# Altium footprint library ZMBo Footprint Library.PcbLib: 76 footprints (part 1 of 5)
Each footprint in its own frame and in the unit in brackets; x right, y up, seen from the top. Pads: shape width x height; smd on the part's side, far side on the other; paste and mask are expansions set on the pad; w line width, h text height; cw(c..) or ccw(c..) is an arc to the next point about the centre after c.
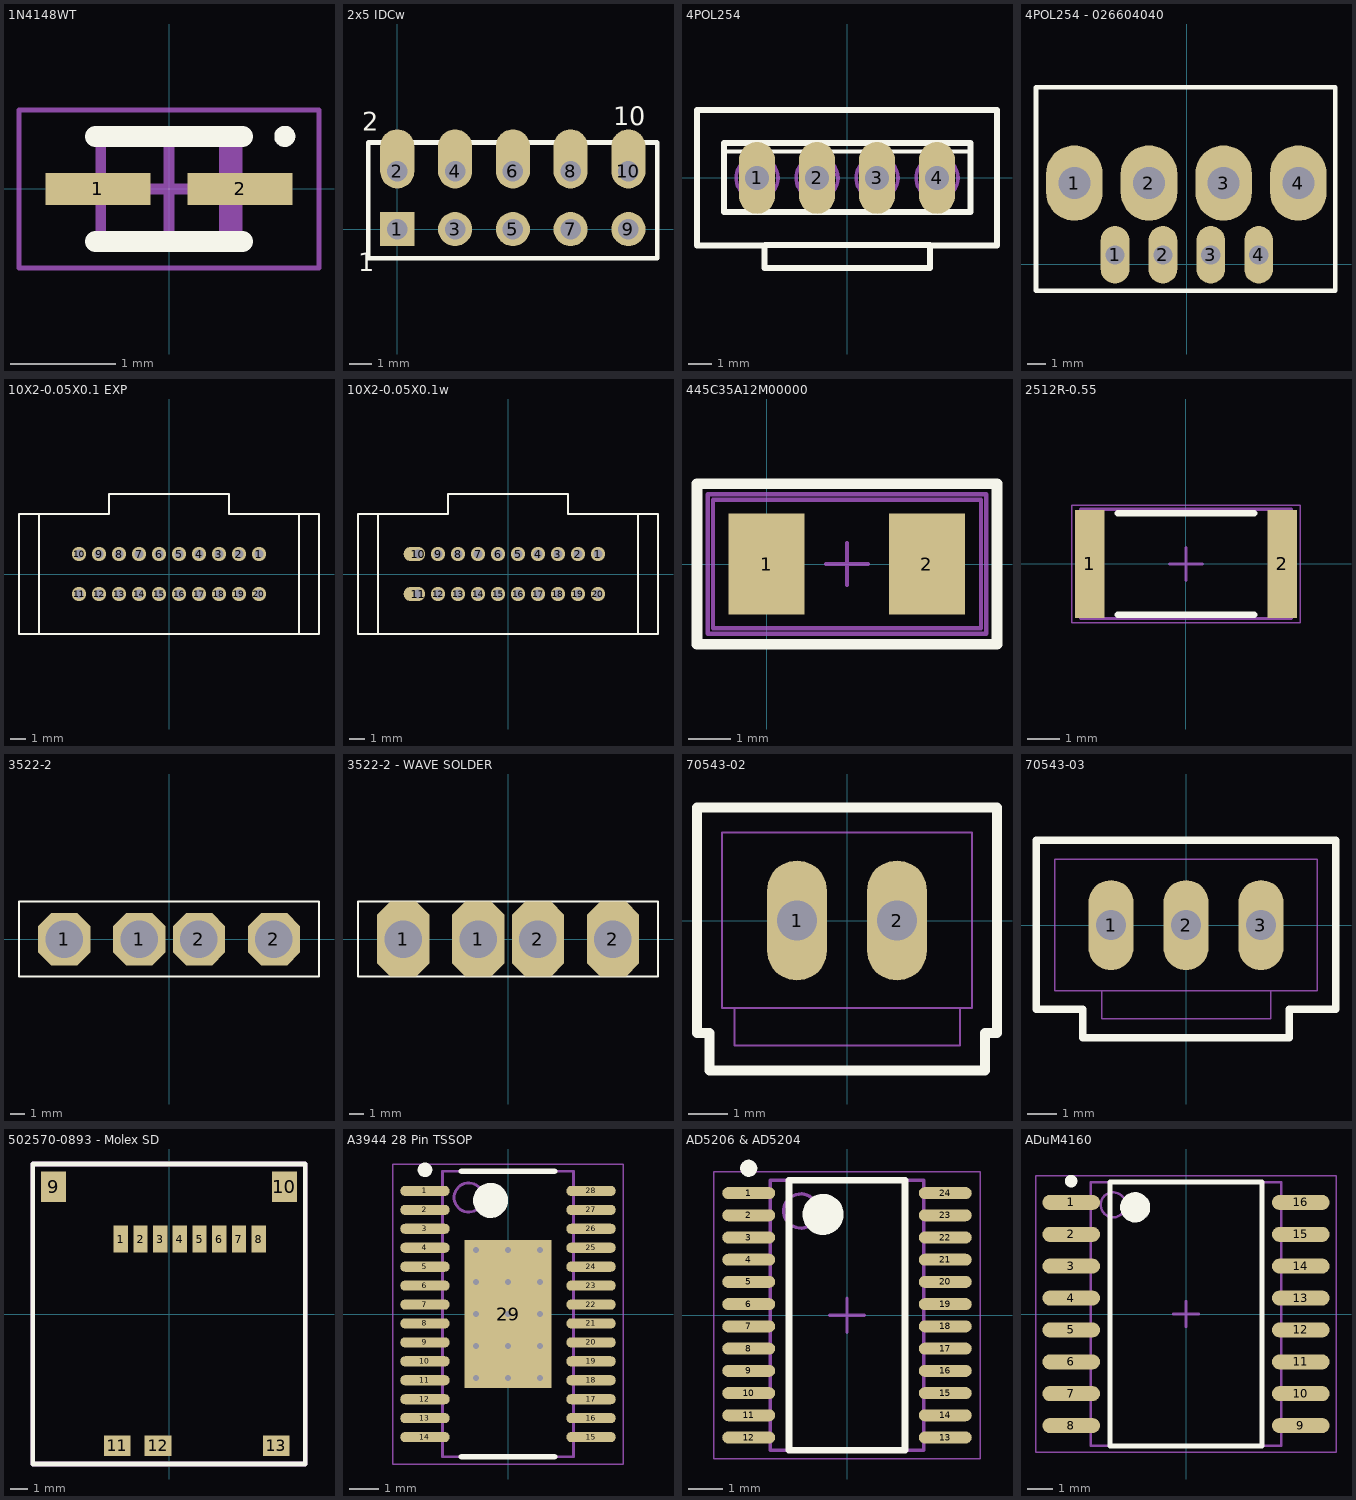
[diagram p0: the footprints below, top view; thin cyan lines are the x and y axes]

## 1N4148WT [mm] "Molded Diode, 2-Leads, Body 1.20x0.80mm, IPC Medium Density"
height 0.7
pads (2):
  rect 1x0.3 smd: 1(-0.675,0) 2(0.675,0)
Top Overlay:
  circle w0.1: c1.1,0.5 r0.05
  lines w0.2: -0.7,-0.5 0.7,-0.5 ; -0.7,0.5 0.7,0.5
Mechanical 13:
  rectangle: 0.475,-0.45 0.65,0.45
  lines w0.1: -0.65,-0.45 -0.65,0.45 0.65,0.45 0.65,-0.45 -0.65,-0.45
Mechanical 15:
  lines w0.05: -1.425,-0.75 -1.425,0.75 1.425,0.75 1.425,-0.75 -1.425,-0.75
  lines w0.1: -0.45,0 0.45,0 ; 0,-0.45 0,0.45
3D body: height 0.7, standoff 0, extent -0.65,-0.45 0.65,0.45

## 2x5 IDCw [mm]
pads (10):
  rect 1.5x1.5 hole 0.9: 1(0,0)
  oval 1.5x2.6 hole 0.9 copper offset 0,0.55: 2(0,2.54) 4(2.54,2.54) 6(5.08,2.54) 8(7.62,2.54) 10(10.16,2.54)
  round 1.5 hole 0.9: 3(2.54,0) 5(5.08,0) 7(7.62,0) 9(10.16,0)
Top Overlay:
  lines w0.2: -1.27,-1.27 -1.27,3.81 11.43,3.81 11.43,-1.27 -1.27,-1.27
  text "2" at -1.549,4.318 h0.81
  text "1" at -1.727,-1.854 h0.81
  text "10" at 9.5,4.572 h0.81
3D body: height 1.91, standoff 0, extent -1.37,-1.37 11.53,3.91
3D body: height 12.7, standoff 1.91, extent -0.826,-0.826 10.986,3.366

## 4POL254 [mil]
pads (4):
  oval 60x120 hole 40: 1(-150,0) 2(-50,0) 3(50,0) 4(150,0)
Top Overlay:
  lines w6: -200.79,44 201,44
  lines w10: -136.77,-112.22 138.73,-112.22 ; -250,-112.5 -137.5,-112.5 -137.5,-150 138,-150 138,-112.5 250,-112.5 250,113 -250,113 -250,-112.5 ; -205.12,-57.09 -205.12,58 206,58 206,-57.09 -205.12,-57.09
Mechanical 16:
  circle w6: c150,0 r35
  circle w6: c50,0 r35
  circle w6: c-50,0 r35
  circle w6: c-150,0 r35
  lines w6: -175,-20 -130,25 ; -80,-10 -20,5 ; 30,25 70,-25 ; 120,15 180,-15
3D body: height 454.33, standoff 118.11, extent -249.98,-149.98 249.98,112.98
3D body: height 118.11, standoff 0, extent -249.98,-112.48 249.98,112.98

## 4POL254 - 026604040 [mil]
pads (8):
  oval 118.11x157.48 hole 66.93: 1(-235,170) 2(-79.09,170) 3(76.81,170) 4(232.72,170)
  oval 60x120 hole 40: 1(-150,20) 2(-50,20) 3(50,20) 4(150,20)
Top Overlay:
  lines w10: -315,-55 -315,370 310,370 310,-55 -315,-55
3D body: height 583.74, standoff -136.26, extent -310,-20 308,374

## 10X2-0.05X0.1 EXP [mil]
pads (20):
  round 36 hole 22: 1(225,50) 2(175,50) 3(125,50) 4(75,50) 5(25,50) 6(-25,50) 7(-75,50) 8(-125,50) 9(-175,50) 10(-225,50) 11(-225,-50) 12(-175,-50) 13(-125,-50) 14(-75,-50) 15(-25,-50) 16(25,-50) 17(75,-50) 18(125,-50) 19(175,-50) 20(225,-50)
Top Overlay:
  lines w5: -325,-150 325,-150 ; -325,-150 -325,150 ; -325,-150 -375,-150 -375,150 -325,150 ; -325,150 -150,150 -150,200 150,200 150,150 325,150 ; 325,-150 325,150 ; 325,-150 375,-150 375,150 325,150
3D body: height 511.81, standoff 0, extent -324.98,-149.98 324.98,199.98
3D body: height 590.55, standoff 0, extent -374.98,-149.98 -325.02,149.98
3D body: height 590.55, standoff 0, extent 325.02,-149.98 374.98,149.98

## 10X2-0.05X0.1w [mil]
pads (20):
  round 36 hole 22: 1(225,50) 2(175,50) 3(125,50) 4(75,50) 5(25,50) 6(-25,50) 7(-75,50) 8(-125,50) 9(-175,50) 12(-175,-50) 13(-125,-50) 14(-75,-50) 15(-25,-50) 16(25,-50) 17(75,-50) 18(125,-50) 19(175,-50) 20(225,-50)
  oval 54x36 hole 22 copper offset -9,0: 10(-225,50) 11(-225,-50)
Top Overlay:
  lines w5: -325,-150 -375,-150 -375,150 -325,150 ; -325,-150 -325,150 ; -325,-150 325,-150 ; -325,150 -150,150 -150,200 150,200 150,150 325,150 ; 325,-150 375,-150 375,150 325,150 ; 325,-150 325,150
3D body: height 590.55, standoff 0, extent 325.02,-149.98 374.98,149.98
3D body: height 590.55, standoff 0, extent -374.98,-149.98 -325.02,149.98
3D body: height 511.81, standoff 0, extent -324.98,-149.98 324.98,199.98

## 445C35A12M00000 [mm] "Crystal Oscillator"
height 1.35
pads (2):
  rect 1.8x2.4 smd: 1(0,0) 2(3.8,0)
Top Overlay:
  lines w0.254: -1.651,-1.905 5.461,-1.905 5.461,1.905 -1.651,1.905 -1.651,-1.905
Mechanical 13:
  lines w0.1: -1.27,-1.524 -1.27,1.524 5.08,1.524 5.08,-1.524 -1.27,-1.524
Mechanical 15:
  lines w0.1: 1.405,0 2.405,0 ; 1.905,-0.5 1.905,0.5 ; -1.397,-1.651 5.207,-1.651 5.207,1.651 -1.397,1.651 -1.397,-1.651
3D body: height 1, standoff 0, extent -1.27,-1.524 5.08,1.524

## 2512R-0.55 [mm] "2512 Resistor 6.35mm x 3.2mm x 0.55mm"
height 0.65
pads (2):
  rect 0.9x3.3 smd: 1(-2.95,0) 2(2.95,0)
Top Overlay:
  lines w0.2: -2.1,-1.55 2.1,-1.55 ; -2.1,1.55 2.1,1.55
Mechanical 13:
  lines w0.1: -3.225,-1.675 -3.225,1.675 3.225,1.675 3.225,-1.675 -3.225,-1.675
Mechanical 15:
  lines w0.05: -3.5,-1.8 -3.5,1.8 3.5,1.8 3.5,-1.8 -3.5,-1.8
  lines w0.1: -0.5,0 0.5,0 ; 0,-0.5 0,0.5
3D body: height 0.65, standoff 0, extent -2.725,-1.675 2.725,1.675
3D body: height 0.65, standoff 0, extent -3.225,-1.675 -2.725,1.675
3D body: height 0.65, standoff 0, extent 2.725,-1.675 3.225,1.675

## 3522-2 [mil] "3522-2"
pads (4):
  oct 140x140 hole 100: 1(-280,0) 1(-80,0) 2(80,0) 2(280,0)
Top Overlay:
  lines w5: -400,-100 -400,100 400,100 400,-100 -400,-100
3D body: height 50, standoff 0, extent -402.5,-102.5 402.5,102.5
3D body: height 299.21, standoff 0, extent -353,-73 353,73

## 3522-2 - WAVE SOLDER [mil] "3522-2"
pads (4):
  oct 140x200 hole 100: 1(-280,0) 1(-80,0) 2(80,0) 2(280,0)
Top Overlay:
  lines w5: -400,-100 400,-100 400,100 -400,100 -400,-100
3D body: height 50, standoff 0, extent -402.5,-102.5 402.5,102.5
3D body: height 299.21, standoff 0, extent -354,-74 354,74
3D body: height 708.66, standoff 50, extent -353,-73 353,73

## 70543-02 [mil]
pads (2):
  oval 60x120 hole 40: 1(-50,0) 2(50,0)
Top Overlay:
  lines w10: -150,-112.5 -150,113 150,113 150,-112.5 138,-112.5 138,-150 -137.5,-150 -137.5,-112.5 -150,-112.5
Mechanical 16:
  rectangle: 41,-9.37 60,10
  rectangle: -59.37,-9.37 -40.63,10
  lines w2: -112.5,-87.5 -125,-87.5 -125,88 125,88 125,-87.5 113,-87.5 ; -112.5,-87.5 113,-87.5 ; -112.5,-87.5 -112.5,-125 113,-125 113,-87.5
  text "1" at -112.5,-62.5 h62
3D body: height 118.11, standoff 0, extent -149.98,-112.48 149.98,112.98
3D body: height 450, standoff 118.11, extent -149.98,-149.98 149.98,112.98

## 70543-03 [mil]
pads (3):
  oval 60x120 hole 40: 1(-100,0) 2(0,0) 3(100,0)
Top Overlay:
  lines w10: -200,-112.5 -200,113 200,113 200,-112.5 138,-112.5 138,-150 -137.5,-150 -137.5,-112.5 -200,-112.5
Mechanical 16:
  rectangle: -9.37,-9.37 10,10
  rectangle: -109.37,-9.37 -90.63,10
  rectangle: 91,-9.37 110,10
  lines w2: -112.5,-87.5 -175,-87.5 -175,88 175,88 175,-87.5 113,-87.5 ; -112.5,-87.5 113,-87.5 ; -112.5,-87.5 -112.5,-125 113,-125 113,-87.5
  text "1" at -162.5,-62.5 h62
3D body: height 450, standoff 0, extent -199.98,-149.98 199.98,112.98

## 502570-0893 - Molex SD [mm] "Molex SD Card Footprint 502570-0893"
pads (13):
  rect 0.8x1.5 smd: 1(-2.692,4.191) 2(-1.592,4.191) 3(-0.492,4.191) 4(0.608,4.191) 5(1.708,4.191) 6(2.808,4.191) 7(3.908,4.191) 8(5.008,4.191)
  rect 1.4x1.7 smd: 9(-6.452,7.112) 10(6.452,7.112)
  rect 1.5x1.15 smd: 11(-2.896,-7.366) 12(-0.61,-7.366) 13(5.994,-7.366)
Top Overlay:
  lines w0.254: -7.62,-8.382 -7.62,8.382 7.62,8.382 7.62,-8.382 -7.62,-8.382
Mechanical 13:
  lines w0.254: -7.62,-8.382 7.62,-8.382 7.62,8.382 -7.62,8.382 -7.62,-8.382
3D body: height 1.85, standoff 0.05, extent -6.858,-7.753 6.942,7.747

## A3944 28 Pin TSSOP [mm] "TSOP, 28-Leads, Body 9.70x4.40mm, Pitch 0.65mm, Thermal Pad 5.08.2x3.00.2mm, IPC Medium Density"
height 1.2
pads (29):
  oval 1.7x0.35 smd: 1(-2.85,4.225) 2(-2.85,3.575) 3(-2.85,2.925) 4(-2.85,2.275) 5(-2.85,1.625) 6(-2.85,0.975) 7(-2.85,0.325) 8(-2.85,-0.325) 9(-2.85,-0.975) 10(-2.85,-1.625) 11(-2.85,-2.275) 12(-2.85,-2.925) 13(-2.85,-3.575) 14(-2.85,-4.225) 15(2.85,-4.225) 16(2.85,-3.575) 17(2.85,-2.925) 18(2.85,-2.275) 19(2.85,-1.625) 20(2.85,-0.975) 21(2.85,-0.325) 22(2.85,0.325) 23(2.85,0.975) 24(2.85,1.625) 25(2.85,2.275) 26(2.85,2.925) 27(2.85,3.575) 28(2.85,4.225)
  rect 3x5.08 smd: 29(0,0)
via -1.1,2.2 diameter 0.5 hole 0.2
via 0,2.2 diameter 0.5 hole 0.2
via 1.1,2.2 diameter 0.5 hole 0.2
via -1.1,1.1 diameter 0.5 hole 0.2
via 0,1.1 diameter 0.5 hole 0.2
via 1.1,1.1 diameter 0.5 hole 0.2
via -1.1,0 diameter 0.5 hole 0.2
via 0,0 diameter 0.5 hole 0.2
via 1.1,0 diameter 0.5 hole 0.2
via -1.1,-1.1 diameter 0.5 hole 0.2
via 0,-1.1 diameter 0.5 hole 0.2
via 1.1,-1.1 diameter 0.5 hole 0.2
via -1.1,-2.2 diameter 0.5 hole 0.2
via 0,-2.2 diameter 0.5 hole 0.2
via 1.1,-2.2 diameter 0.5 hole 0.2
Top Overlay:
  circle w0.25: c-2.85,4.95 r0.125
  circle w0.6: c-0.6,3.9 r0.3
  lines w0.2: -1.6,-4.9 1.6,-4.9 ; -1.6,4.9 1.6,4.9
Mechanical 13:
  circle w0.1: c-1.35,4 r0.5
  lines w0.1: -2.25,-4.9 -2.25,4.9 2.25,4.9 2.25,-4.9 -2.25,-4.9
Mechanical 15:
  lines w0.05: -3.95,-5.15 -3.95,5.15 3.95,5.15 3.95,-5.15 -3.95,-5.15
  lines w0.1: -0.5,0 0.5,0 ; 0,-0.5 0,0.5
3D body: height 1.2, standoff 0.15, extent -2.25,-4.9 2.25,4.9

## AD5206 & AD5204 [mm] "SOP, 24-Leads, Body 7.80x4.40mm, Pitch 0.65mm, IPC Medium Density"
height 2.65
pads (24):
  oval 1.55x0.35 smd: 1(-2.875,3.575) 2(-2.875,2.925) 3(-2.875,2.275) 4(-2.875,1.625) 5(-2.875,0.975) 6(-2.875,0.325) 7(-2.875,-0.325) 8(-2.875,-0.975) 9(-2.875,-1.625) 10(-2.875,-2.275) 11(-2.875,-2.925) 12(-2.875,-3.575) 13(2.875,-3.575) 14(2.875,-2.925) 15(2.875,-2.275) 16(2.875,-1.625) 17(2.875,-0.975) 18(2.875,-0.325) 19(2.875,0.325) 20(2.875,0.975) 21(2.875,1.625) 22(2.875,2.275) 23(2.875,2.925) 24(2.875,3.575)
Top Overlay:
  circle w0.25: c-2.875,4.3 r0.125
  circle w0.6: c-0.7,2.95 r0.3
  lines w0.2: -1.7,-3.95 -1.7,3.95 1.7,3.95 1.7,-3.95 -1.7,-3.95
Mechanical 13:
  circle w0.1: c-1.35,3.05 r0.5
  lines w0.1: -2.25,-3.95 -2.25,3.95 2.25,3.95 2.25,-3.95 -2.25,-3.95
Mechanical 15:
  lines w0.05: -3.9,-4.2 -3.9,4.2 3.9,4.2 3.9,-4.2 -3.9,-4.2
  lines w0.1: -0.5,0 0.5,0 ; 0,-0.5 0,0.5
3D body: height 2.65, standoff 0.2, extent -2.25,-3.95 2.25,3.95

## ADuM4160 [mm] "SOIC, 16-Leads, Body 10.30x7.50mm, Pitch 1.27mm, IPC Medium Density"
height 2.65
pads (16):
  oval 2.3x0.6 smd: 1(-4.575,4.445) 2(-4.575,3.175) 3(-4.575,1.905) 4(-4.575,0.635) 5(-4.575,-0.635) 6(-4.575,-1.905) 7(-4.575,-3.175) 8(-4.575,-4.445) 9(4.575,-4.445) 10(4.575,-3.175) 11(4.575,-1.905) 12(4.575,-0.635) 13(4.575,0.635) 14(4.575,1.905) 15(4.575,3.175) 16(4.575,4.445)
Top Overlay:
  circle w0.6: c-2.025,4.25 r0.3
  circle w0.25: c-4.575,5.295 r0.125
  lines w0.2: -3.025,-5.25 3.025,-5.25 3.025,5.25 -3.025,5.25 -3.025,-5.25
Mechanical 13:
  circle w0.1: c-2.9,4.35 r0.5
  lines w0.1: -3.8,-5.25 3.8,-5.25 3.8,5.25 -3.8,5.25 -3.8,-5.25
Mechanical 15:
  lines w0.05: -5.975,-5.5 5.975,-5.5 5.975,5.5 -5.975,5.5 -5.975,-5.5
  lines w0.1: -0.5,0 0.5,0 ; 0,-0.5 0,0.5
3D body: height 2.65, standoff 0.1, extent -3.8,-5.25 3.8,5.25